# EAGLE library part TORAGI-LPC-WRITER (library PartsForProto)
Toragi-LPC Writer CMSIS-DAP トラ技ARMライタ（CN5）
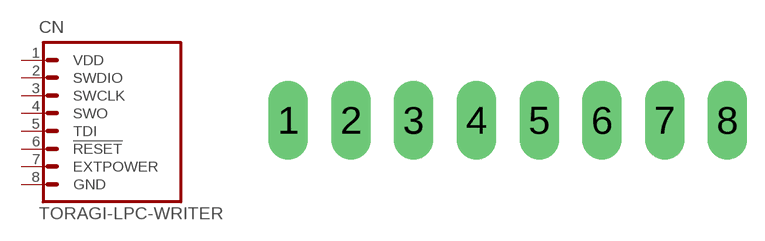
[diagram p0: symbol with the pads of TORAGI-LPC-WRITER; footprint TORAGI-LPC-WRITER]

Designator prefix CN

## TORAGI-LPC-WRITER  [TORAGI-LPC-WRITER]
1  VDD  pas
2  SWDIO
3  SWCLK
4  SWO
5  TDI
6  !RESET!
7  EXTPOWER
8  GND  pas

## Footprint TORAGI-LPC-WRITER (pad centres in mm)
PIN HEADER
drill 1 pad 1.6 long: 1 0,0; 2 2.54,0; 3 5.08,0; 4 7.62,0; 5 10.16,0; 6 12.7,0; 7 15.24,0; 8 17.78,0